# Altium footprint library chess_module.PcbLib: 3 footprints
Each footprint in its own frame and in the unit in brackets; x right, y up, seen from the top. Pads: shape width x height; smd on the part's side, far side on the other; paste and mask are expansions set on the pad; w line width, h text height; cw(c..) or ccw(c..) is an arc to the next point about the centre after c.
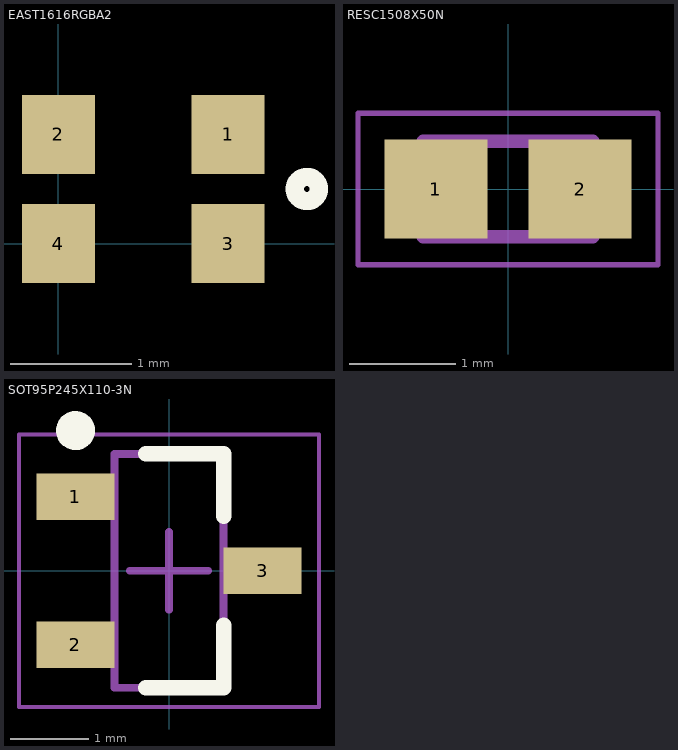
[diagram p0: the footprints below, top view; thin cyan lines are the x and y axes]

## EAST1616RGBA2 [mm] "EAST1616RGBA2 RBG LED"
height 0.35
pads (4):
  rect 0.6x0.65 smd: 1(1.4,0.9) 2(0,0.9) 3(1.4,0) 4(0,0)
Top Overlay:
  circle w0.15: c2.05,0.45 r0.1

## RESC1508X50N [mm]
pads (2):
  rect 0.97x0.93 smd: 1(-0.68,0) 2(0.68,0)
Mechanical 13:
  lines w0.127: -0.8,-0.45 0.8,-0.45 0.8,0.45 -0.8,0.45 -0.8,-0.45
Mechanical 15:
  lines w0.05: -1.415,-0.715 1.415,-0.715 1.415,0.715 -1.415,0.715 -1.415,-0.715

## SOT95P245X110-3N [mm] "SOT23, 3-Leads, Body 2.90x2.45mm, Pitch 0.95mm, IPC Medium Density"
height 1.1
pads (3):
  rect 1x0.6 smd: 1(-1.2,0.95) 2(-1.2,-0.95) 3(1.2,0)
Top Overlay:
  circle w0.25: c-1.2,1.8 r0.125
  lines w0.2: -0.3,-1.5 0.7,-1.5 0.7,-0.7 ; -0.3,1.5 0.7,1.5 0.7,0.7
Mechanical 13:
  lines w0.1: -0.7,-1.5 0.7,-1.5 0.7,1.5 -0.7,1.5 -0.7,-1.5
Mechanical 15:
  lines w0.05: -1.925,-1.75 1.925,-1.75 1.925,1.75 -1.925,1.75 -1.925,-1.75
  lines w0.1: -0.5,0 0.5,0 ; 0,-0.5 0,0.5
3D body: height 1.1, standoff 0.05, extent -0.7,-1.5 0.7,1.5